# EAGLE library part 40010 (library 8Bit_Parts)
Amstrad CPC Gate Array
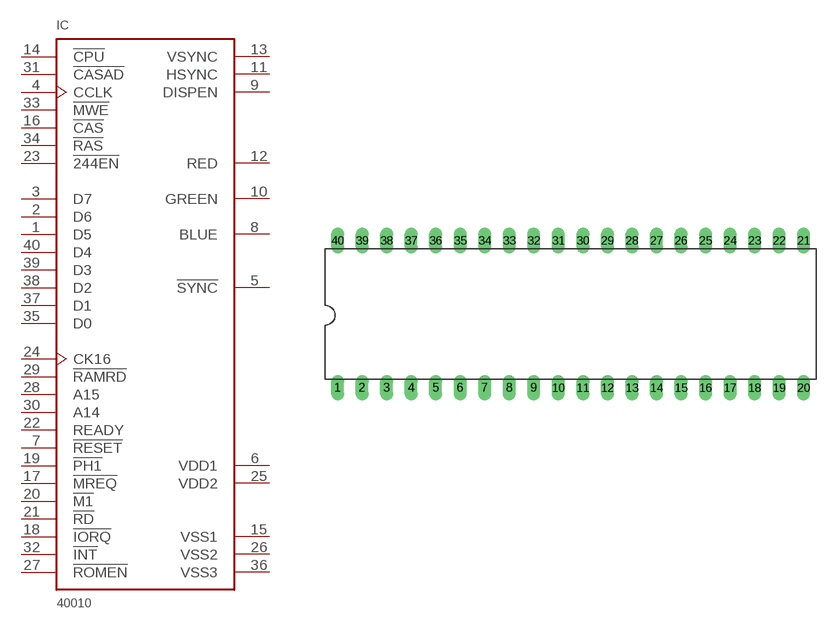
[diagram p19: symbol with the pads of DIL40; footprint DIL40]

Designator prefix IC

## 40010  [DIL40]
1  D5
2  D6
3  D7
4  CCLK  out
5  !SYNC  out
6  VDD1  pwr
7  !RESET  in
8  BLUE  out
9  DISPEN  in
10  GREEN  out
11  HSYNC  in
12  RED  out
13  VSYNC  in
14  !CPU
15  VSS1  pwr
16  !CAS  out
17  !MREQ  in
18  !IORQ  in
19  !PH1  out
20  !M1  in
21  !RD  in
22  READY  out
23  !244EN  out
24  CK16  in
25  VDD2  pwr
26  VSS2  pwr
27  !ROMEN  out
28  A15  in
29  !RAMRD  out
30  A14  in
31  !CASAD  out
32  !INT  out
33  !MWE  out
34  !RAS  out
35  D0
36  VSS3  pwr
37  D1
38  D2
39  D3
40  D4

## Footprint DIL40 (pad centres in mm)
Dual In Line Package
drill 0.813 long: 1 -24.13,-7.62; 2 -21.59,-7.62; 3 -19.05,-7.62; 4 -16.51,-7.62; 5 -13.97,-7.62; 6 -11.43,-7.62; 7 -8.89,-7.62; 8 -6.35,-7.62; 9 -3.81,-7.62; 10 -1.27,-7.62; 11 1.27,-7.62; 12 3.81,-7.62; 13 6.35,-7.62; 14 8.89,-7.62; 15 11.43,-7.62; 16 13.97,-7.62; 17 16.51,-7.62; 18 19.05,-7.62; 19 21.59,-7.62; 20 24.13,-7.62; 21 24.13,7.62; 22 21.59,7.62; 23 19.05,7.62; 24 16.51,7.62; 25 13.97,7.62; 26 11.43,7.62; 27 8.89,7.62; 28 6.35,7.62; 29 3.81,7.62; 30 1.27,7.62; 31 -1.27,7.62; 32 -3.81,7.62; 33 -6.35,7.62; 34 -8.89,7.62; 35 -11.43,7.62; 36 -13.97,7.62; 37 -16.51,7.62; 38 -19.05,7.62; 39 -21.59,7.62; 40 -24.13,7.62